# Altium schematic symbol library Raspberry_PI_CM3_1473005-4.SchLib: 1 symbol
Pins are listed as number, name and electrical type; pins without a type are passive.

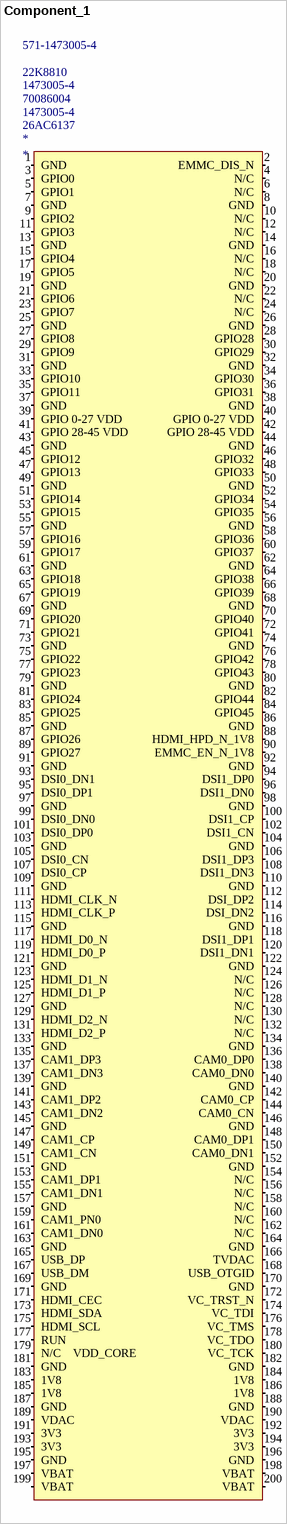
[diagram p0: symbol Component_1]

## Component_1
designator *  Supplier Part Number 1: 26AC6137  Supplier Part Number 2: 1473005-4  Supplier Part Number 3: 70086004  Supplier Part Number 5: 22K8810  Supplier Part Number 6: 571-1473005-4
Supplier 1: Newark; Supplier 2: Arrow; Supplier 3: Allied Electronics; Supplier 4: Avnet; Supplier 5: Newark; Supplier 6: Mouser; Supplier Part Number 4: 1473005-4
pins: 1 GND (in), 2 EMMC_DIS_N (in), 3 GPIO0 (in), 4 N/C (in), 5 GPIO1 (in), 6 N/C (in), 7 GND (in), 8 GND (in), 9 GPIO2 (in), 10 N/C (in), 11 GPIO3 (in), 12 N/C (in), 13 GND (in), 14 GND (in), 15 GPIO4 (in), 16 N/C (in), 17 GPIO5 (in), 18 N/C (in), 19 GND (in), 20 GND (in), 21 GPIO6 (in), 22 N/C (in), 23 GPIO7 (in), 24 N/C (in), 25 GND (in), 26 GND (in), 27 GPIO8 (in), 28 GPIO28 (in), 29 GPIO9 (in), 30 GPIO29 (in), 31 GND (in), 32 GND (in), 33 GPIO10 (in), 34 GPIO30 (in), 35 GPIO11 (in), 36 GPIO31 (in), 37 GND (in), 38 GND (in), 39 GPIO 0-27 VDD (in), 40 GPIO 0-27 VDD (in), 41 GPIO 28-45 VDD (in), 42 GPIO 28-45 VDD (in), 43 GND (in), 44 GND (in), 45 GPIO12 (in), 46 GPIO32 (in), 47 GPIO13 (in), 48 GPIO33 (in), 49 GND (in), 50 GND (in), 51 GPIO14 (in), 52 GPIO34 (in), 53 GPIO15 (in), 54 GPIO35 (in), 55 GND (in), 56 GND (in), 57 GPIO16 (in), 58 GPIO36 (in), 59 GPIO17 (in), 60 GPIO37 (in), 61 GND (in), 62 GND (in), 63 GPIO18 (in), 64 GPIO38 (in), 65 GPIO19 (in), 66 GPIO39 (in), 67 GND (in), 68 GND (in), 69 GPIO20 (in), 70 GPIO40 (in), 71 GPIO21 (in), 72 GPIO41 (in), 73 GND (in), 74 GND (in), 75 GPIO22 (in), 76 GPIO42 (in), 77 GPIO23 (in), 78 GPIO43 (in), 79 GND (in), 80 GND (in), 81 GPIO24 (in), 82 GPIO44 (in), 83 GPIO25 (in), 84 GPIO45 (in), 85 GND (in), 86 GND (in), 87 GPIO26 (in), 88 HDMI_HPD_N_1V8 (in), 89 GPIO27 (in), 90 EMMC_EN_N_1V8 (in), 91 GND (in), 92 GND (in), 93 DSI0_DN1 (in), 94 DSI1_DP0 (in), 95 DSI0_DP1 (in), 96 DSI1_DN0 (in), 97 GND (in), 98 GND (in), 99 DSI0_DN0 (in), 100 DSI1_CP (in), 101 DSI0_DP0 (in), 102 DSI1_CN (in), 103 GND (in), 104 GND (in), 105 DSI0_CN (in), 106 DSI1_DP3 (in), 107 DSI0_CP (in), 108 DSI1_DN3 (in), 109 GND (in), 110 GND (in), 111 HDMI_CLK_N (in), 112 DSI_DP2 (in), 113 HDMI_CLK_P (in), 114 DSI_DN2 (in), 115 GND (in), 116 GND (in), 117 HDMI_D0_N (in), 118 DSI1_DP1 (in), 119 HDMI_D0_P (in), 120 DSI1_DN1 (in), 121 GND (in), 122 GND (in), 123 HDMI_D1_N (in), 124 N/C (in), 125 HDMI_D1_P (in), 126 N/C (in), 127 GND (in), 128 N/C (in), 129 HDMI_D2_N (in), 130 N/C (in), 131 HDMI_D2_P (in), 132 N/C (in), 133 GND (in), 134 GND (in), 135 CAM1_DP3 (in), 136 CAM0_DP0 (in), 137 CAM1_DN3 (in), 138 CAM0_DN0 (in), 139 GND (in), 140 GND (in), 141 CAM1_DP2 (in), 142 CAM0_CP (in), 143 CAM1_DN2 (in), 144 CAM0_CN (in), 145 GND (in), 146 GND (in), 147 CAM1_CP (in), 148 CAM0_DP1 (in), 149 CAM1_CN (in), 150 CAM0_DN1 (in), 151 GND (in), 152 GND (in), 153 CAM1_DP1 (in), 154 N/C (in), 155 CAM1_DN1 (in), 156 N/C (in), 157 GND (in), 158 N/C (in), 159 CAM1_PN0 (in), 160 N/C (in), 161 CAM1_DN0 (in), 162 N/C (in), 163 GND (in), 164 GND (in), 165 USB_DP (in), 166 TVDAC (in), 167 USB_DM (in), 168 USB_OTGID (in), 169 GND (in), 170 GND (in), 171 HDMI_CEC (in), 172 VC_TRST_N (in), 173 HDMI_SDA (in), 174 VC_TDI (in), 175 HDMI_SCL (in), 176 VC_TMS (in), 177 RUN (in), 178 VC_TDO (in), 179 N/C    VDD_CORE (in), 180 VC_TCK (in), 181 GND (in), 182 GND (in), 183 1V8 (in), 184 1V8 (in), 185 1V8 (in), 186 1V8 (in), 187 GND (in), 188 GND (in), 189 VDAC (in), 190 VDAC (in), 191 3V3 (in), 192 3V3 (in), 193 3V3 (in), 194 3V3 (in), 195 GND (in), 196 GND (in), 197 VBAT (in), 198 VBAT (in), 199 VBAT (in), 200 VBAT (in)